# Altium footprint library RELAY.PcbLib: 23 footprints (part 1 of 2)
Each footprint in its own frame and in the unit in brackets; x right, y up, seen from the top. Pads: shape width x height; smd on the part's side, far side on the other; paste and mask are expansions set on the pad; w line width, h text height; cw(c..) or ccw(c..) is an arc to the next point about the centre after c.
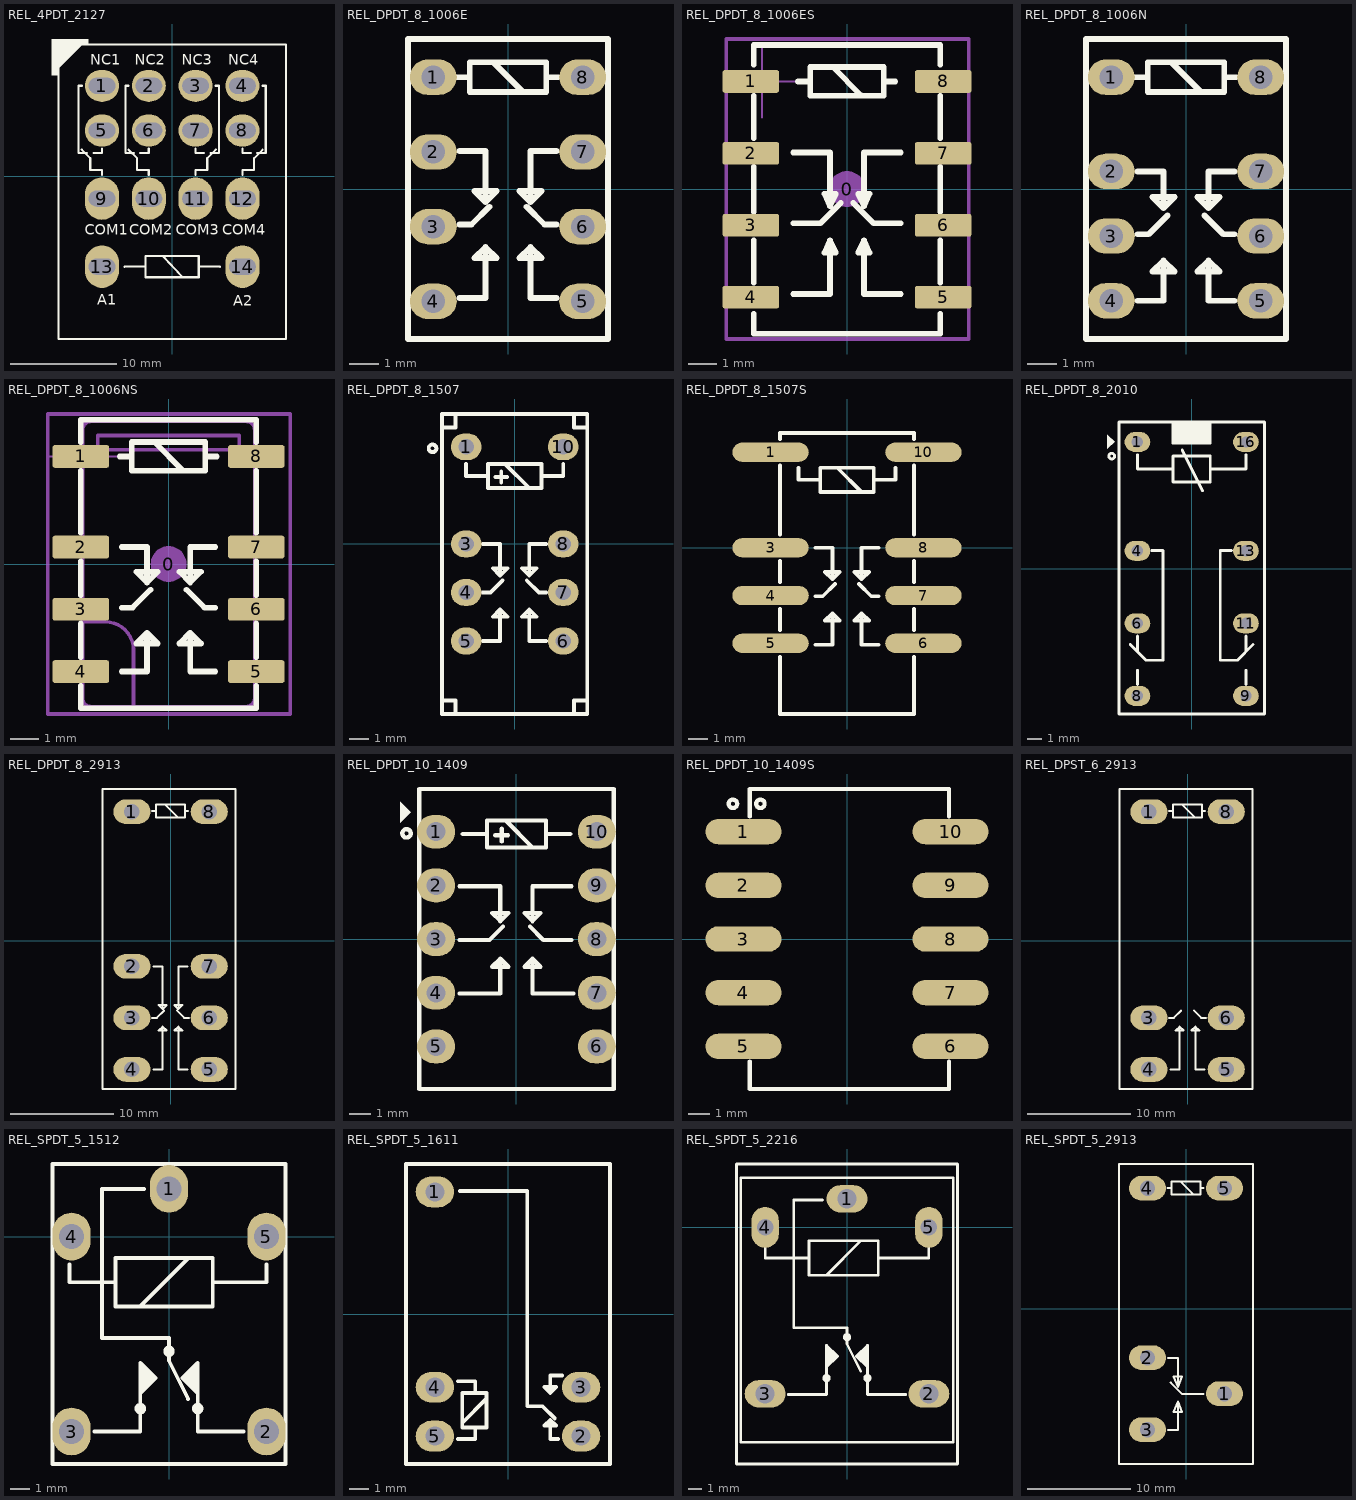
[diagram p0: the footprints below, top view; thin cyan lines are the x and y axes]

## REL_4PDT_2127 [mm] "RELAY, DPDT, 21x27x35mm, pitch 4.4mm"
height 20.8
pads (14):
  oval 3.2x3 hole 1.5 slot 2.5 at 0 deg: 1(-6.6,8.5) 2(-2.2,8.5) 3(2.2,8.5) 4(6.6,8.5) 5(-6.6,4.3) 6(-2.2,4.3) 7(2.2,4.3) 8(6.6,4.3)
  oval 3.2x4 hole 1.5 slot 2.5 at 0 deg: 9(-6.6,-2.1) 10(-2.2,-2.1) 11(2.2,-2.1) 12(6.6,-2.1) 13(-6.6,-8.5) 14(6.6,-8.5)
Top Overlay:
  region: -11.3,9.5 -11.3,12.9 -7.9,12.9 -7.9,12.4 -8.4,12.4 -10.7,10.1 -10.7,9.5
  lines w0.2: -8.5,2.5 -7.7,1.7 -7.7,0.6 -6.6,0.6 -6.6,0.1 ; -8.5,8.5 -8.8,8.5 -8.8,2.2 -8,2.2 ; -7.4,2.2 -6.6,2.2 -6.6,2.6 ; -4.5,-8.513 -2.5,-8.5 ; -4.1,2.5 -3.3,1.7 -3.3,0.6 -2.2,0.6 -2.2,0.1 ; -4.1,8.5 -4.4,8.5 -4.4,2.2 -3.6,2.2 ; -3,2.2 -2.2,2.2 -2.2,2.6 ; -0.9,-7.5 0.936,-9.467 ; 2.2,0.1 2.2,0.6 3.3,0.6 3.3,1.7 4.1,2.5 ; 2.2,2.6 2.2,2.2 3,2.2 ; 2.5,-8.5 4.5,-8.513 ; 3.6,2.2 4.4,2.2 4.4,8.5 4.1,8.5 ; 6.6,0.1 6.6,0.6 7.7,0.6 7.7,1.7 8.5,2.5 ; 6.6,2.6 6.6,2.2 7.4,2.2 ; 8,2.2 8.8,2.2 8.8,8.5 8.5,8.5 ; -10.7,-15.3 10.7,-15.3 10.7,12.4 -10.7,12.4 -10.7,-15.3 ; -2.5,-9.5 -2.5,-7.5 2.5,-7.5 2.5,-9.5 -2.5,-9.5
  text "NC1" at -7.688,10.5 h1
  text "NC2" at -3.502,10.5 h1
  text "NC3" at 0.898,10.5 h1
  text "NC4" at 5.274,10.5 h1
  text "COM1" at -8.238,-5.5 h1
  text "COM2" at -4.052,-5.5 h1
  text "COM3" at 0.348,-5.5 h1
  text "COM4" at 4.724,-5.5 h1
  text "A1" at -7.056,-12.07 h1
  text "A2" at 5.761,-12.157 h1
3D body "4PDT_2903677_STEP-A242.stp": height 35.7, standoff -5.9, extent -10.6,-15.2 10.6,12.3

## REL_DPDT_8_1006E [mm] "RELAY, DPDT, 10X6.5X5mm, OMRON G6K-2P EQUAL pitch 2.54mm"
height 11.95
pads (8):
  oval 1.6x1.2 hole 0.8: 1(-2.54,3.81) 2(-2.54,1.27) 3(-2.54,-1.27) 4(-2.54,-3.81) 5(2.54,-3.81) 6(2.54,-1.27) 7(2.54,1.27) 8(2.54,3.81)
Top Overlay:
  lines w0.2: -1.73,3.81 -1.3,3.81 ; -1.651,-3.7 -0.762,-3.7 -0.762,-1.959 ; -1.651,-1.2 -1.24,-1.2 -0.635,-0.595 ; -1.651,1.3 -0.762,1.3 -0.762,-0.441 ; -0.5,4.318 0.5,3.318 ; 0.635,-0.595 1.24,-1.2 1.651,-1.2 ; 1.3,3.81 1.7,3.81 ; 1.651,-3.7 0.762,-3.7 0.762,-1.959 ; 1.651,1.3 0.762,1.3 0.762,-0.441 ; -0.762,-1.959 -0.381,-2.34 -1.143,-2.34 -0.762,-1.959 ; -0.762,-0.441 -1.143,-0.06 -0.381,-0.06 -0.762,-0.441 ; 0.762,-1.959 0.381,-2.34 1.143,-2.34 0.762,-1.959 ; 0.762,-0.441 1.143,-0.06 0.381,-0.06 0.762,-0.441 ; -3.4,-5.09 -3.4,5.11 3.4,5.11 3.4,-5.09 -3.4,-5.09 ; -1.3,3.302 -1.3,4.318 1.3,4.318 1.3,3.302 -1.3,3.302
3D body "g6k-2p_3dc.stp": height 5.1, standoff -3.4, extent -3.25,-4.99 3.25,5.01

## REL_DPDT_8_1006ES [mm] "RELAY, DPDT, 10X6mm, SMD, Equal pitch 2.54mm, G6K-2F"
height 5.6
pads (9):
  round 1.27 on Mech15: 0(0,0.01)
  rrect20% 2x0.8 smd: 1(-3.4,3.81) 2(-3.4,1.27) 3(-3.4,-1.27) 4(-3.4,-3.81) 5(3.4,-3.81) 6(3.4,-1.27) 7(3.4,1.27) 8(3.4,3.81)
Top Overlay:
  lines w0.2: -3.3,-4.4 -3.3,-5.1 3.3,-5.1 3.3,-4.4 ; -3.3,-3.3 -3.3,-1.8 ; -3.3,-0.8 -3.3,0.8 ; -3.3,1.8 -3.3,3.3 ; -3.3,4.4 -3.3,5.1 3.3,5.1 3.3,4.4 ; -1.9,-3.7 -0.6,-3.7 -0.6,-1.8 ; -1.9,-1.2 -0.94,-1.2 -0.22,-0.48 ; -1.9,1.3 -0.6,1.3 -0.6,-0.6 ; -1.73,3.81 -1.3,3.81 ; -0.5,4.318 0.5,3.318 ; 0.22,-0.48 0.94,-1.2 1.9,-1.2 ; 1.3,3.81 1.7,3.81 ; 1.9,-3.7 0.6,-3.7 0.6,-1.8 ; 1.9,1.3 0.6,1.3 0.6,-0.6 ; 3.3,-3.3 3.3,-1.8 ; 3.3,-0.8 3.3,0.8 ; 3.3,1.8 3.3,3.3 ; -0.6,-1.8 -0.8,-2.24 -0.4,-2.24 -0.6,-1.8 ; -0.6,-0.6 -0.4,-0.16 -0.8,-0.16 -0.6,-0.6 ; 0.6,-1.8 0.4,-2.24 0.8,-2.24 0.6,-1.8 ; 0.6,-0.6 0.8,-0.16 0.4,-0.16 0.6,-0.6 ; -1.3,3.302 1.3,3.302 1.3,4.318 -1.3,4.318 -1.3,3.302
Mechanical 15:
  lines w0.076: -4.27,3.81 -1.73,3.81 ; -3,2.54 -3,5.08
  lines w0.127: -4.27,-5.29 4.3,-5.29 4.3,5.31 -4.27,5.31 -4.27,-5.29
3D body "g6k-2f_3dc.stp": height 5.2, standoff 0, extent -3.9,-4.99 3.9,5.01

## REL_DPDT_8_1006N [mm] "RELAY, DPDT, 10X6.5X5mm, OMRON G6K-2P-Y, Not equal pitch"
height 11.95
pads (8):
  oval 1.6x1.2 hole 0.8: 1(-2.54,3.8) 2(-2.54,0.6) 3(-2.54,-1.6) 4(-2.54,-3.8) 5(2.54,-3.8) 6(2.54,-1.6) 7(2.54,0.6) 8(2.54,3.8)
Top Overlay:
  lines w0.2: -1.73,3.8 -1.3,3.8 ; -1.651,-3.8 -0.762,-3.8 -0.762,-2.429 ; -1.651,-1.54 -1.27,-1.54 -0.635,-0.905 ; -1.651,0.6 -0.762,0.6 -0.762,-0.651 ; -0.5,4.308 0.5,3.308 ; 0.635,-0.905 1.27,-1.54 1.651,-1.54 ; 1.3,3.8 1.7,3.8 ; 1.651,-3.8 0.762,-3.8 0.762,-2.429 ; 1.651,0.6 0.762,0.6 0.762,-0.651 ; -0.762,-2.429 -0.381,-2.81 -1.143,-2.81 -0.762,-2.429 ; -0.762,-0.651 -0.381,-0.27 -1.143,-0.27 -0.762,-0.651 ; 0.762,-2.429 0.381,-2.81 1.143,-2.81 0.762,-2.429 ; 0.762,-0.651 0.381,-0.27 1.143,-0.27 0.762,-0.651 ; -3.4,-5.1 3.4,-5.1 3.4,5.1 -3.4,5.1 -3.4,-5.1 ; -1.3,3.292 1.3,3.292 1.3,4.308 -1.3,4.308 -1.3,3.292
3D body "g6k-2p-y.STEP": height 5.1, standoff -2.4, extent -3.25,-5 3.25,5

## REL_DPDT_8_1006NS [mm] "RELAY, DPDT, 10X6mm, TE IM48DGR SMD, Not equal pitch"
height 5.65
pads (9):
  round 1.27 on Mech15: 0(0,0)
  rrect20% 2x0.8 smd: 1(-3.1,3.8) 2(-3.1,0.6) 3(-3.1,-1.6) 4(-3.1,-3.8) 5(3.1,-3.8) 6(3.1,-1.6) 7(3.1,0.6) 8(3.1,3.8)
Top Overlay:
  lines w0.2: -3.1,-4.3 -3.1,-5.1 3.1,-5.1 3.1,-4.3 ; -3.1,-3.3 -3.1,-2.1 ; -3.1,-1.1 -3.1,0.1 ; -3.1,1.1 -3.1,3.3 ; -3.1,4.3 -3.1,5.1 3.1,5.1 3.1,4.3 ; -1.73,3.8 -1.3,3.8 ; -1.651,-3.8 -0.762,-3.8 -0.762,-2.429 ; -1.651,-1.54 -1.27,-1.54 -0.635,-0.905 ; -1.651,0.6 -0.762,0.6 -0.762,-0.651 ; -0.5,4.308 0.5,3.308 ; 0.635,-0.905 1.27,-1.54 1.651,-1.54 ; 1.3,3.8 1.7,3.8 ; 1.651,-3.8 0.762,-3.8 0.762,-2.429 ; 1.651,0.6 0.762,0.6 0.762,-0.651 ; 3.1,-3.3 3.1,-2.1 ; 3.1,-1.1 3.1,0.1 ; 3.1,1.1 3.1,3.3 ; -0.762,-2.429 -1.143,-2.81 -0.381,-2.81 -0.762,-2.429 ; -0.762,-0.651 -1.143,-0.27 -0.381,-0.27 -0.762,-0.651 ; 0.762,-2.429 1.143,-2.81 0.381,-2.81 0.762,-2.429 ; 0.762,-0.651 1.143,-0.27 0.381,-0.27 0.762,-0.651 ; -1.3,3.292 -1.3,4.308 1.3,4.308 1.3,3.292 -1.3,3.292
Mechanical 13:
  lines w0.127: -3.04,-4 -3.755,-4 -3.755,-3.6 -3.04,-3.6 ; -3.04,-2.04 -2.24,-2.04 cw(c-2.24,-3.04) -1.24,-3.04 -1.24,-5.04 ; -3.04,-1.8 -3.755,-1.8 -3.755,-1.4 -3.04,-1.4 ; -3.04,0.4 -3.755,0.4 -3.755,0.8 -3.04,0.8 ; -3.04,3.6 -3.755,3.6 -3.755,4 -3.04,4 ; 3.04,-4 3.755,-4 3.755,-3.6 3.04,-3.6 ; 3.04,-1.8 3.755,-1.8 3.755,-1.4 3.04,-1.4 ; 3.04,0.4 3.755,0.4 3.755,0.8 3.04,0.8 ; 3.04,3.6 3.755,3.6 3.755,4 3.04,4 ; -3.04,-4.74 ccw(c-2.74,-4.74) -2.74,-5.04 2.74,-5.04 ccw(c2.74,-4.74) 3.04,-4.74 3.04,4.74 ccw(c2.74,4.74) 2.74,5.04 -2.74,5.04 ccw(c-2.74,4.74) -3.04,4.74 -3.04,-4.74 ; -2.5,4.04 -2.5,4.54 2.5,4.54 2.5,4.04 -2.5,4.04
Mechanical 15:
  lines w0.076: -4.27,3.8 -1.73,3.8 ; -3,2.53 -3,5.07
  lines w0.127: -4.27,-5.3 -4.27,5.3 4.3,5.3 4.3,-5.3 -4.27,-5.3
3D body "RELAY TE IM Series gull wing.STEP": height 5.65, standoff 0, extent -3.755,-5.04 3.755,5.04

## REL_DPDT_8_1507 [mm] "RELAY, DPDT, 8P, 2.54mm pitch, 15X7.5mm, TE FX2, G6S-2"
pads (8):
  oval 1.6x1.4 hole 0.8: 1(-2.54,5.08) 3(-2.54,0) 4(-2.54,-2.54) 5(-2.54,-5.08) 6(2.54,-5.08) 7(2.54,-2.54) 8(2.54,0) 10(2.54,5.08)
Top Overlay:
  circle w0.2: c-4.3,5 r0.2
  lines w0.2: -3.8,-8.2 -3.1,-8.2 -3.1,-8.9 ; -3.8,6.1 -3.1,6.1 -3.1,6.8 ; -2.54,4.191 -2.54,3.556 -1.397,3.556 ; -1.651,-5.08 -0.762,-5.08 -0.762,-3.429 ; -1.651,-2.54 -1.27,-2.54 -0.635,-1.905 ; -1.651,0 -0.762,0 -0.762,-1.651 ; -1,3.5 -0.4,3.5 ; -0.7,3.2 -0.7,3.8 ; -0.508,4.191 0.762,2.921 ; 0.635,-1.905 1.27,-2.54 1.651,-2.54 ; 1.397,3.556 2.54,3.556 2.54,4.191 ; 1.651,-5.08 0.762,-5.08 0.762,-3.429 ; 1.651,0 0.762,0 0.762,-1.651 ; 3.1,-8.9 3.1,-8.2 3.8,-8.2 ; 3.1,6.8 3.1,6.1 3.8,6.1 ; -0.762,-3.429 -0.381,-3.81 -1.143,-3.81 -0.762,-3.429 ; -0.762,-1.651 -0.381,-1.27 -1.143,-1.27 -0.762,-1.651 ; 0.762,-3.429 0.381,-3.81 1.143,-3.81 0.762,-3.429 ; 0.762,-1.651 0.381,-1.27 1.143,-1.27 0.762,-1.651 ; -3.8,-8.9 -3.8,6.8 3.8,6.8 3.8,-8.9 -3.8,-8.9 ; -1.397,2.921 -1.397,4.191 1.397,4.191 1.397,2.921 -1.397,2.921
3D body "c-1462034-2-a5-3d.stp": height 11, standoff -3, extent -3.65,-8.775 3.65,6.175

## REL_DPDT_8_1507S [mm] "RELAY, DPDT SMD, 8P, 2.54mm pitch, 15X7.5X9.6mm"
height 9.6
pads (8):
  oval 4x1 smd: 1(-4,5) 3(-4,0) 4(-4,-2.5) 5(-4,-5) 6(4,-5) 7(4,-2.5) 8(4,0) 10(4,5)
Top Overlay:
  lines w0.2: -3.5,-5.7 -3.5,-8.7 3.5,-8.7 3.5,-5.7 ; -3.5,-4.3 -3.5,-3.2 ; -3.5,-1.8 -3.5,-0.7 ; -3.5,0.7 -3.5,4.3 ; -3.5,5.7 -3.5,6 3.5,6 3.5,5.7 ; -2.54,4.191 -2.54,3.556 -1.397,3.556 ; -1.651,-5.08 -0.762,-5.08 -0.762,-3.429 ; -1.651,-2.54 -1.27,-2.54 -0.635,-1.905 ; -1.651,0 -0.762,0 -0.762,-1.651 ; -0.508,4.191 0.762,2.921 ; 0.635,-1.905 1.27,-2.54 1.651,-2.54 ; 1.397,3.556 2.54,3.556 2.54,4.191 ; 1.651,-5.08 0.762,-5.08 0.762,-3.429 ; 1.651,0 0.762,0 0.762,-1.651 ; 3.5,-4.3 3.5,-3.2 ; 3.5,-1.8 3.5,-0.7 ; 3.5,0.7 3.5,4.3 ; -0.762,-3.429 -1.143,-3.81 -0.381,-3.81 -0.762,-3.429 ; -0.762,-1.651 -1.143,-1.27 -0.381,-1.27 -0.762,-1.651 ; 0.762,-3.429 1.143,-3.81 0.381,-3.81 0.762,-3.429 ; 0.762,-1.651 1.143,-1.27 0.381,-1.27 0.762,-1.651 ; -1.397,2.921 1.397,2.921 1.397,4.191 -1.397,4.191 -1.397,2.921
3D body "SMD Relay.STEP": height 10.81, standoff -0.01, extent -5,-8.6 5,5.85

## REL_DPDT_8_2010 [mm] "RELAY, DPDT, 8P, 20.5X10.2mm, G5V-2"
height 2.54
pads (8):
  oval 1.8x1.4 hole 0.8: 1(-3.8,8.89) 4(-3.8,1.27) 6(-3.8,-3.81) 8(-3.8,-8.89) 9(3.8,-8.89) 11(3.8,-3.81) 13(3.8,1.27) 16(3.8,8.89)
Top Overlay:
  circle w0.2: c-5.6,7.9 r0.2
  region: -1.3,10.3 -1.3,8.8 1.3,8.8 1.3,10.3
  region: -5.9,8.4 -5.9,9.4 -5.4,8.9
  lines w0.2: -4.3,-5.3 -3.2,-6.4 -2,-6.4 -2,1.3 -2.794,1.3 ; -3.8,-8.1 -3.8,-7.1 ; -3.8,-5.7 -3.8,-4.7 ; -3.8,8 -3.8,7 -1.3,7 ; -1.3,10.3 -1.3,8.8 1.3,8.8 1.3,10.3 ; -0.666,8.317 0.754,5.477 ; 1.3,7 3.8,7 3.8,8 ; 2.794,1.3 2,1.3 2,-6.4 3.2,-6.4 4.3,-5.3 ; 3.8,-8.1 3.8,-7.1 ; 3.8,-5.7 3.8,-4.7 ; -5.1,-10.16 5.1,-10.16 5.1,10.3 -5.1,10.3 -5.1,-10.16 ; -1.3,6.1 -1.3,7.9 1.3,7.9 1.3,6.1 -1.3,6.1
3D body "User Library-OMRON G5V-2.STEP": height 12.92, standoff -2, extent -4.996,-10.225 5.004,10.175

## REL_DPDT_8_2913 [mm] "RELAY, DPDT, 8P, 2.54mm pitch, 29X13mm, G2R-2C, HHC69A, NNC69A, JQX-14FC"
pads (8):
  oval 3.6x2.4 hole 1.5: 1(-3.75,12.5) 2(-3.75,-2.5) 3(-3.75,-7.5) 4(-3.75,-12.5) 5(3.75,-12.5) 6(3.75,-7.5) 7(3.75,-2.5) 8(3.75,12.5)
Top Overlay:
  lines w0.2: -1.8,-7.5 -1.33,-7.5 -0.635,-6.805 ; -1.8,12.556 -1.397,12.556 ; -1.651,-12.5 -0.762,-12.5 -0.762,-8.349 ; -1.651,-2.5 -0.762,-2.5 -0.762,-6.651 ; -0.508,13.191 0.762,11.921 ; 0.635,-6.805 1.33,-7.5 1.8,-7.5 ; 1.397,12.556 1.7,12.556 ; 1.651,-12.5 0.762,-12.5 0.762,-8.349 ; 1.651,-2.5 0.762,-2.5 0.762,-6.651 ; -0.762,-8.349 -1.143,-8.73 -0.381,-8.73 -0.762,-8.349 ; -0.762,-6.651 -0.381,-6.27 -1.143,-6.27 -0.762,-6.651 ; 0.762,-8.349 1.143,-8.73 0.381,-8.73 0.762,-8.349 ; 0.762,-6.651 0.381,-6.27 1.143,-6.27 0.762,-6.651 ; -6.6,-14.4 -6.6,14.7 6.3,14.7 6.3,-14.4 -6.6,-14.4 ; -1.397,11.921 1.397,11.921 1.397,13.191 -1.397,13.191 -1.397,11.921
3D body "User Library-OMRON G2R-2 RELAY.STEP": height 25.46, standoff -4.51, extent -6.5,-14.328 6.225,14.628

## REL_DPDT_10_1409 [mm] "RELAY, DPDT, 10P, 14X9mm, TE FP2"
height 5.1
pads (10):
  oval 1.8x1.6 hole 0.9: 1(-3.8,5.08) 2(-3.8,2.54) 3(-3.8,0) 4(-3.8,-2.54) 5(-3.8,-5.08) 6(3.8,-5.08) 7(3.8,-2.54) 8(3.8,0) 9(3.8,2.54) 10(3.8,5.08)
Top Overlay:
  circle w0.2: c-5.2,5 r0.2
  region: -5.5,5.5 -5.5,6.5 -5,6
  lines w0.2: -2.7,-2.58 -0.762,-2.58 -0.762,-0.929 ; -2.7,-0.04 -1.27,-0.04 -0.635,0.595 ; -2.7,2.5 -0.762,2.5 -0.762,0.849 ; -2.54,4.973 -1.397,4.973 ; -1,4.917 -0.4,4.917 ; -0.7,4.617 -0.7,5.217 ; -0.508,5.608 0.762,4.338 ; 0.635,0.595 1.27,-0.04 2.6,-0.04 ; 1.397,4.973 2.54,4.973 ; 2.6,2.5 0.762,2.5 0.762,0.849 ; 2.7,-2.58 0.762,-2.58 0.762,-0.929 ; -0.762,-0.929 -0.381,-1.31 -1.143,-1.31 -0.762,-0.929 ; -0.762,0.849 -0.381,1.23 -1.143,1.23 -0.762,0.849 ; 0.762,-0.929 0.381,-1.31 1.143,-1.31 0.762,-0.929 ; 0.762,0.849 0.381,1.23 1.143,1.23 0.762,0.849 ; -4.6,-7.092 -4.6,7.1 4.6,7.1 4.6,-7.092 -4.6,-7.092 ; -1.397,4.338 1.397,4.338 1.397,5.608 -1.397,5.608 -1.397,4.338
3D body "c-3-1462033-4-d-3d.stp": height 4.8, standoff -3.4, extent -4.5,-7 4.5,7

## REL_DPDT_10_1409S [mm] "RELAY, DPDT, 10P, 14X9mm, TQ2SA"
pads (10):
  oval 3.6x1.2 smd: 1(-4.9,5.08) 2(-4.9,2.54) 3(-4.9,0) 4(-4.9,-2.54) 5(-4.9,-5.08) 6(4.9,-5.08) 7(4.9,-2.54) 8(4.9,0) 9(4.9,2.54) 10(4.9,5.08)
Top Overlay:
  circle w0.2: c-4.1,6.4 r0.2
  circle w0.2: c-5.4,6.4 r0.2
  lines w0.2: -4.6,-5.8 -4.6,-7.1 4.826,-7.1 4.826,-5.8 ; -4.6,5.8 -4.6,7.1 4.826,7.1 4.826,5.8
3D body "User Library-Relais TQ2SA.step": height 6.51, standoff 0, extent -6.06,-7 6.06,7

## REL_DPST_6_2913 [mm] "RELAY, DPST-NO, 6P, 2.54mm pitch, 29X13mm, G2R-2A"
pads (6):
  oval 3.6x2.4 hole 1.5: 1(-3.75,12.5) 3(-3.75,-7.5) 4(-3.75,-12.5) 5(3.75,-12.5) 6(3.75,-7.5) 8(3.75,12.5)
Top Overlay:
  lines w0.2: -1.8,-7.5 -1.33,-7.5 -0.635,-6.805 ; -1.8,12.556 -1.397,12.556 ; -1.651,-12.5 -0.762,-12.5 -0.762,-8.349 ; -0.508,13.191 0.762,11.921 ; 0.635,-6.805 1.33,-7.5 1.8,-7.5 ; 1.397,12.556 1.7,12.556 ; 1.651,-12.5 0.762,-12.5 0.762,-8.349 ; -0.762,-8.349 -0.381,-8.73 -1.143,-8.73 -0.762,-8.349 ; 0.762,-8.349 0.381,-8.73 1.143,-8.73 0.762,-8.349 ; -6.6,-14.4 6.3,-14.4 6.3,14.7 -6.6,14.7 -6.6,-14.4 ; -1.397,11.921 -1.397,13.191 1.397,13.191 1.397,11.921 -1.397,11.921
3D body "User Library-OMRON G2R-2 RELAY.STEP": height 25.46, standoff -4.51, extent -6.5,-14.328 6.225,14.628

## REL_SPDT_5_1512 [mm] "RELAY, SPDT, 15.40x12.10x14.0mm, G8QN, SUN HOLD RAM"
height 13.1
pads (5):
  oval 2x2.5 hole 1.3: 1(0,2.5) 2(5.1,-10.2) 3(-5.1,-10.2) 4(-5.1,0) 5(5.1,0)
Top Overlay:
  circle w0.2: c-1.5,-9 r0.2
  circle w0.2: c1.5,-9 r0.2
  circle w0.2: c0,-6 r0.2
  region: -1.5,-6.6 -1.5,-8.2 -0.7,-7.4
  region: 1.5,-6.6 1.5,-8.2 0.7,-7.4
  lines w0.2: -5.2,-1.45 -5.2,-2.392 -2.794,-2.392 ; -3.9,-10.2 -1.5,-10.2 -1.5,-6.6 -0.7,-7.4 -1.5,-8.2 ; -1.524,-3.662 1.016,-1.122 ; -1.3,2.5 -3.5,2.5 -3.5,-5.3 0,-5.3 0,-6.5 1,-8.5 ; 1.5,-8.2 0.7,-7.4 1.5,-6.6 1.5,-10.2 3.9,-10.2 ; 5.1,-1.45 5.1,-2.392 2.286,-2.392 ; 2.286,-2.392 2.286,-3.662 -2.794,-3.662 -2.794,-1.122 2.286,-1.122 2.286,-2.392 ; -6.1,-11.9 6.1,-11.9 6.1,3.8 -6.1,3.8 -6.1,-11.9
3D body "User Library-G8QN-05-EX.step": height 14, standoff -3.4, extent -6,-11.8 6,3.7

## REL_SPDT_5_1611 [mm] "RELAY, SPDT, 15.7X11X12mm, TRBS"
height 12
pads (5):
  oval 2x1.6 hole 1: 1(-3.8,6.35) 2(3.8,-6.35) 3(3.8,-3.81) 4(-3.8,-3.81) 5(-3.8,-6.35)
Top Overlay:
  lines w0.2: -2.6,-6.5 -1.7,-6.5 -1.7,-5.9 ; -2.6,-3.5 -1.7,-3.5 -1.7,-4.1 ; -2.5,6.4 1,6.4 1,-4.8 1.8,-4.8 2.435,-5.435 ; -2.379,-5.662 -1.109,-4.392 ; 2.6,-6.5 2.2,-6.5 2.2,-5.5 ; 2.8,-3.2 2.2,-3.2 2.2,-4.1 ; 2.2,-5.5 2.5,-5.8 1.9,-5.8 2.2,-5.5 ; 2.2,-4.1 1.9,-3.8 2.5,-3.8 2.2,-4.1 ; -5.3,-7.8 -5.3,7.8 5.3,7.8 5.3,-7.8 -5.3,-7.8 ; -2.379,-5.9 -1.109,-5.9 -1.109,-4.1 -2.379,-4.1 -2.379,-5.9
3D body "User Library-HK4100F.step": height 11.81, standoff -2.75, extent -5.2,-7.7 5.2,7.7

## REL_SPDT_5_2216 [mm] "RELAY SPDT, OMRON G5LE SERIES, 22X16mm and 18.8x15.4mm, HJR-3FF, RAS-1215"
height 15.4
pads (5):
  oval 3x2 hole 1.4: 1(0,2.1) 2(6,-12.2) 3(-6,-12.2)
  oval 2x3 hole 1.2: 4(-6,0) 5(6,0)
Top Overlay:
  circle w0.2: c0,-8.05 r0.2
  circle w0.2: c1.5,-11.05 r0.2
  circle w0.2: c-1.5,-11.05 r0.2
  region: 1.5,-8.65 1.5,-10.25 0.7,-9.45
  region: -1.5,-8.65 -1.5,-10.25 -0.7,-9.45
  lines w0.2: -6,-1.3 -6,-2.243 -2.794,-2.242 ; -4.3,-12.25 -1.5,-12.25 -1.5,-8.65 -0.7,-9.45 -1.5,-10.25 ; -1.8,2.012 -3.9,2.012 -3.9,-7.35 0,-7.35 0,-8.55 1,-10.55 ; -1.524,-3.513 1.016,-0.973 ; 1.5,-10.25 0.7,-9.45 1.5,-8.65 1.5,-12.25 4.3,-12.25 ; 6,-1.3 6,-2.243 2.286,-2.243 ; 2.286,-2.243 2.286,-3.512 -2.794,-3.513 -2.794,-0.973 2.286,-0.973 2.286,-2.243 ; -8.1,-17.35 8.1,-17.35 8.1,4.65 -8.1,4.65 -8.1,-17.35 ; -7.8,-15.75 7.8,-15.75 7.8,3.65 -7.8,3.65 -7.8,-15.75
3D body "User Library-RELE.step": height 15.5, standoff -2.5, extent -7.95,-15.75 7.95,3.75

## REL_SPDT_5_2913 [mm]
height 25
pads (5):
  oval 3.6x2.4 hole 1.5: 1(3.75,-8.25) 2(-3.75,-4.75) 3(-3.75,-11.75) 4(-3.75,11.75) 5(3.75,11.75)
Top Overlay:
  lines w0.2: -1.8,11.756 -1.397,11.756 ; -1.751,-11.8 -0.8,-11.8 -0.8,-9 ; -1.751,-4.8 -0.8,-4.8 -0.8,-7.6 ; -1.485,-7.185 -0.37,-8.3 1.7,-8.3 ; -0.508,12.391 0.762,11.121 ; 1.397,11.756 1.7,11.756 ; -0.8,-9 -0.4,-10.03 -1.2,-10.03 -0.8,-9 ; -0.8,-7.6 -1.2,-6.57 -0.4,-6.57 -0.8,-7.6 ; -6.5,-15.1 6.5,-15.1 6.5,14.1 -6.5,14.1 -6.5,-15.1 ; -1.397,11.121 -1.397,12.391 1.397,12.391 1.397,11.121 -1.397,11.121
3D body "RELAY_G2R-1.STEP": height 25.5, standoff -4, extent -6.5,-15 6.5,14